# Altium schematic symbol library ChipComponents.SchLib: 7 symbols
Pins are listed as number, name and electrical type; pins without a type are passive.

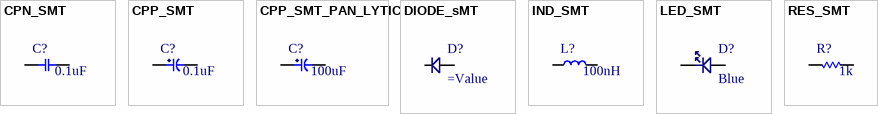
[diagram p0: symbols CPN_SMT to RES_SMT]

## CPN_SMT
designator C?, comment 0.1uF
SMT Capacitor; Tolerance: X7R; Rating: 16v; Value: 0.1uF
footprint C0201(0603)_NP_med (Chip Capacitor, 2-Leads, Body 0.6x0.3mm, IPC Medium Density)
footprint C0402(1005)_NP_med (Chip Capacitor, 2-Leads, Body 1.0x0.5mm, IPC Medium Density)
footprint C0603(1608)_NP_med (Chip Capacitor, 2-Leads, Body 1.6x0.8mm, IPC Medium Density)
footprint C0805(2012)_NP_med (Chip Capacitor, 2-Leads, Body 2.0x1.3mm, IPC Medium Density)
footprint C01005(0402)_NP_med (Chip Capacitor, 2-Leads, Body 0.4x0.2mm, IPC Medium Density)
footprint C1206(3216)_NP_med (Chip Capacitor, 2-Leads, Body 3.1x1.5mm, IPC Medium Density)
footprint C1210(3225)_NP_med (Chip Capacitor, 2-Leads, Body 3.2x2.5mm, IPC Medium Density)
footprint C1812(4532)_NP_med (Chip Capacitor, 2-Leads, Body 4.5x3.2mm, IPC Medium Density)
footprint C2010(5025)_NP_med (Chip Capacitor, 2-Leads, Body 5.0x2.5mm, IPC Medium Density)
footprint C2512(6432)_NP_med (Chip Capacitor, 2-Leads, Body 6.4x3.2mm, IPC Medium Density)
pins: 1, 2

## CPP_SMT
designator C?, comment 0.1uF
SMT Capacitor (Polarized); Rating: 16v; Tolerance: X7R; Value: 0.1uF
footprint C0603(1608)_P_med (Chip Capacitor, 2-Leads, Body 1.6x0.8mm, IPC Medium Density)
footprint C0201(0603)_P_med (Chip Capacitor, 2-Leads, Body 0.6x0.3mm, IPC Medium Density)
footprint C0402(1005)_P_med (Chip Capacitor, 2-Leads, Body 1.0x0.5mm, IPC Medium Density)
footprint C0805(2012)_P_med (Chip Capacitor, 2-Leads, Body 2.0x1.3mm, IPC Medium Density)
footprint C01005(0402)_P_med (Chip Capacitor, 2-Leads, Body 0.4x0.2mm, IPC Medium Density)
footprint C1206(3216)_P_med (Chip Capacitor, 2-Leads, Body 3.1x1.5mm, IPC Medium Density)
footprint C1210(3225)_P_med (Chip Capacitor, 2-Leads, Body 3.2x2.5mm, IPC Medium Density)
footprint C1812(4532)_P_med (Chip Capacitor, 2-Leads, Body 4.5x3.2mm, IPC Medium Density)
footprint C2010(5025)_P_med (Chip Capacitor, 2-Leads, Body 5.0x2.5mm, IPC Medium Density)
footprint C2512(6432)_P_med (Chip Capacitor, 2-Leads, Body 6.4x3.2mm, IPC Medium Density)
pins: 1, 2

## CPP_SMT_PAN_LYTIC
designator C?, comment 100uF
Panasonic SMP Electrolytic Capacitor (Polarized); Rating: 16v; Tolerance: 20%; Manufacturer: Panasonic; Value: 100uF
footprint CAPE_PAN_A (Panasonic 3.0x5.4)
footprint CAPE_PAN_B (Panasonic 4.0x5.4)
footprint CAPE_PAN_C (Panasonic 5.0x5.4)
footprint CAPE_PAN_D (Panasonic 6.3x5.4)
footprint CAPE_PAN_D8 (Panasonic 6.3x7.7)
footprint CAPE_PAN_E (Panasonic 8.0x6.2)
footprint CAPE_PAN_F (Panasonic 8.0x10.2)
footprint CAPE_PAN_G (Panasonic 10.0x10.2)
footprint CAPE_PAN_H (Panasonic 12.5x13.5)
footprint CAPE_PAN_J (Panasonic 16x16.5)
footprint CAPE_PAN_K (Panasonic 18x16.5)
pins: 1, 2

## DIODE_sMT
designator D?
SMT LED; Manufacturer: AVX; Part Number: SD0805S020S1R0; Digikey #: 478-7800-1-ND
footprint C0603(1608)_P_med (Chip Capacitor, 2-Leads, Body 1.6x0.8mm, IPC Medium Density)
footprint C0805(2012)_P_med (Chip Capacitor, 2-Leads, Body 2.0x1.3mm, IPC Medium Density)
footprint C1206(3216)_P_med (Chip Capacitor, 2-Leads, Body 3.1x1.5mm, IPC Medium Density)
footprint C1812(4532)_P_med (Chip Capacitor, 2-Leads, Body 4.5x3.2mm, IPC Medium Density)
footprint C2010(5025)_P_med (Chip Capacitor, 2-Leads, Body 5.0x2.5mm, IPC Medium Density)
footprint C2512(6432)_P_med (Chip Capacitor, 2-Leads, Body 6.4x3.2mm, IPC Medium Density)
footprint C0402(1005)_P_med (Chip Capacitor, 2-Leads, Body 1.0x0.5mm, IPC Medium Density)
pins: 1 K, 2 A

## IND_SMT
designator L?, comment 100nH
SMT Inductor; Tolerance: 5%; Rating: 700mA; Value: 100nH
footprint C0201(0603)_NP_med (Chip Capacitor, 2-Leads, Body 0.6x0.3mm, IPC Medium Density)
footprint C0402(1005)_NP_med (Chip Capacitor, 2-Leads, Body 1.0x0.5mm, IPC Medium Density)
footprint C0603(1608)_NP_med (Chip Capacitor, 2-Leads, Body 1.6x0.8mm, IPC Medium Density)
footprint C0805(2012)_NP_med (Chip Capacitor, 2-Leads, Body 2.0x1.3mm, IPC Medium Density)
footprint C01005(0402)_NP_med (Chip Capacitor, 2-Leads, Body 0.4x0.2mm, IPC Medium Density)
footprint C1206(3216)_NP_med (Chip Capacitor, 2-Leads, Body 3.1x1.5mm, IPC Medium Density)
footprint C1210(3225)_NP_med (Chip Capacitor, 2-Leads, Body 3.2x2.5mm, IPC Medium Density)
footprint C1812(4532)_NP_med (Chip Capacitor, 2-Leads, Body 4.5x3.2mm, IPC Medium Density)
footprint C2010(5025)_NP_med (Chip Capacitor, 2-Leads, Body 5.0x2.5mm, IPC Medium Density)
footprint C2512(6432)_NP_med (Chip Capacitor, 2-Leads, Body 6.4x3.2mm, IPC Medium Density)
pins: 1, 2

## LED_SMT
designator D?, comment Blue
SMT LED; Manufacturer: OSRAM; Part Number: LB Q39G-L2N2-35-1; Digikey #: 475-2816-1-ND; Value: Blue
footprint C0603(1608)_P_med (Chip Capacitor, 2-Leads, Body 1.6x0.8mm, IPC Medium Density)
footprint C0805(2012)_P_med (Chip Capacitor, 2-Leads, Body 2.0x1.3mm, IPC Medium Density)
footprint C1206(3216)_P_med (Chip Capacitor, 2-Leads, Body 3.1x1.5mm, IPC Medium Density)
footprint C1812(4532)_P_med (Chip Capacitor, 2-Leads, Body 4.5x3.2mm, IPC Medium Density)
footprint C2010(5025)_P_med (Chip Capacitor, 2-Leads, Body 5.0x2.5mm, IPC Medium Density)
footprint C2512(6432)_P_med (Chip Capacitor, 2-Leads, Body 6.4x3.2mm, IPC Medium Density)
footprint C0402(1005)_P_med (Chip Capacitor, 2-Leads, Body 1.0x0.5mm, IPC Medium Density)
pins: 1 K, 2 A

## RES_SMT
designator R?, comment 1k
SMT resistor; Tolerance: 1%; Value: 1k
footprint R2512(6432)_med (Chip Resistor, 2-Leads, Body 6.4x3.2mm, IPC Medium Density)
footprint R2010(5025)_med (Chip Resistor, 2-Leads, Body 5.0x2.5mm, IPC Medium Density)
footprint R1812(4532)_med (Chip Resistor, 2-Leads, Body 4.5x3.2mm, IPC Medium Density)
footprint R1210(3225)_med (Chip Resistor, 2-Leads, Body 3.2x2.5mm, IPC Medium Density)
footprint R1206(3216)_med (Chip Resistor, 2-Leads, Body 3.1x1.5mm, IPC Medium Density)
footprint R01005(0402)_med (Chip Resistor, 2-Leads, Body 0.4x0.2mm, IPC Medium Density)
footprint R0805(2012)_med (Chip Resistor, 2-Leads, Body 2.0x1.3mm, IPC Medium Density)
footprint R0603(1608)_med (Chip Resistor, 2-Leads, Body 1.6x0.8mm, IPC Medium Density)
footprint R0402(1005)_med (Chip Resistor, 2-Leads, Body 1.0x0.5mm, IPC Medium Density)
footprint R0201(0603)_med (Chip Resistor, 2-Leads, Body 0.6x0.3mm, IPC Medium Density)
pins: 1, 2